# Altium schematic symbol library LCD.SchLib: 10 symbols
Pins are listed as number, name and electrical type; pins without a type are passive.

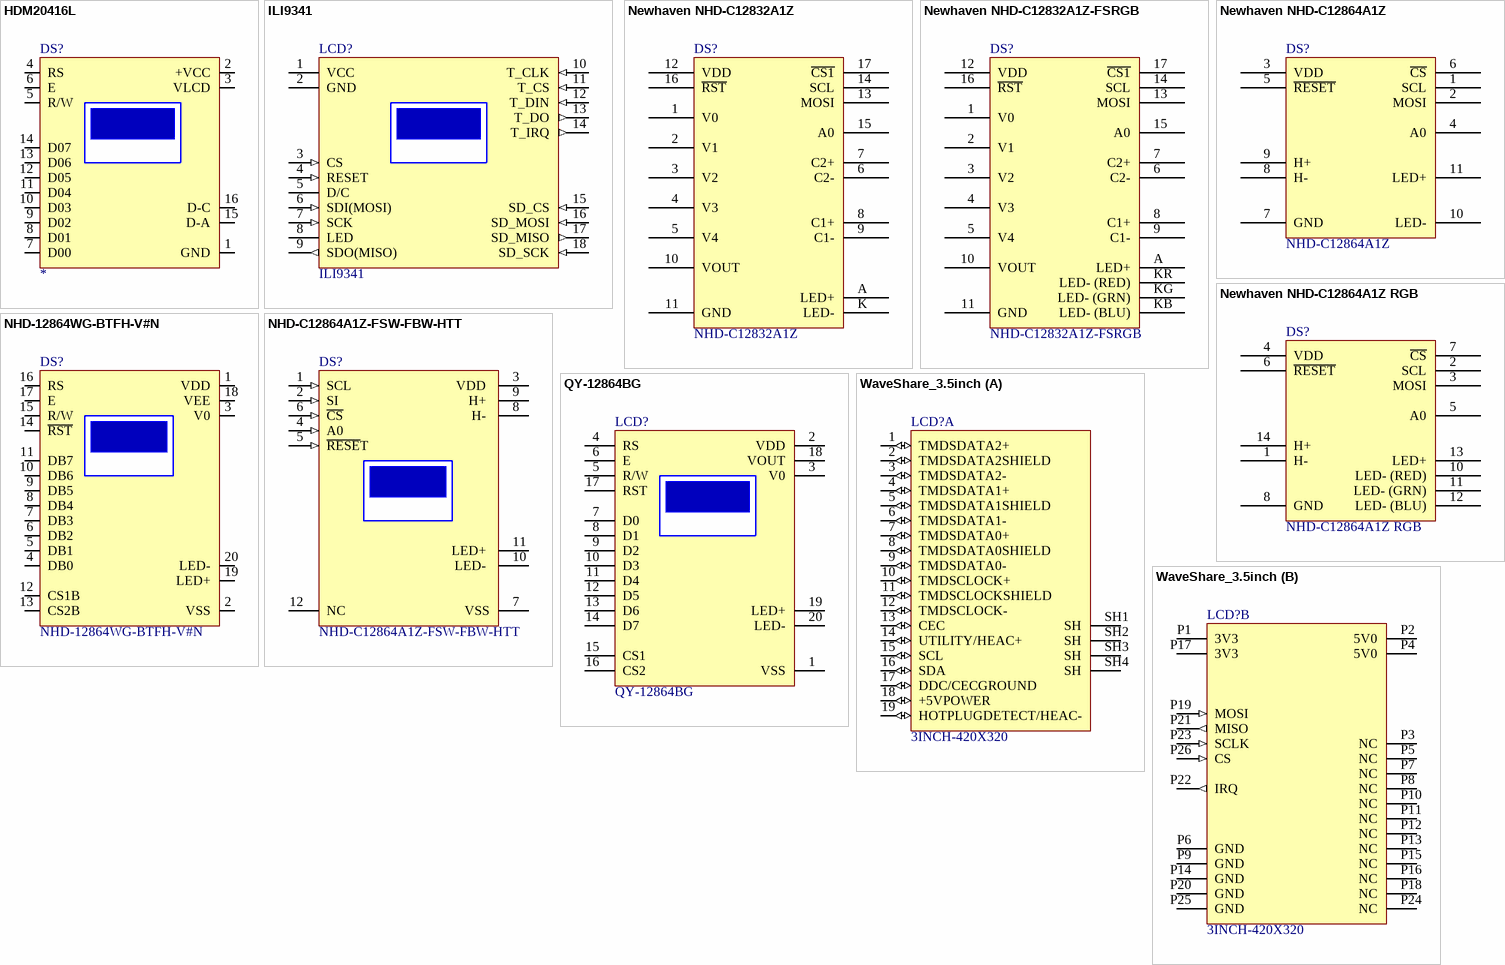
[diagram p0: symbols HDM20416L to WaveShare_3.5inch]

## HDM20416L
designator DS?
LCD 4X20 16 pins Dimensions 98 x 60 mm; Populated: Yes; Value: *; Manuf1: *; Manuf1Partnumber: *; ClassName: *; Code_JEDEC: *; HelpURL: *; ROHS: Yes; PackageReference: *; LifeCycle: Checked
footprint HDM20416L
footprint HDM20416L - MODE2 (LCD 4X20 16 pins Dimensions 98 x 60 mm)
pins: 1 GND, 2 +VCC, 3 VLCD, 4 RS, 5 R/W, 6 E, 7 D00, 8 D01, 9 D02, 10 D03, 11 D04, 12 D05, 13 D06, 14 D07, 15 D-A, 16 D-C

## ILI9341
designator LCD?
240x320 SPI TFT LCD Módule+ uSD; Value: ILI9341
footprint ILI9341 (ILI9341 Compatible LCD)
footprint ILI9341 - VAR1 (ILI9341 Compatible LCD)
footprint ILI9341 - VAR2 (ILI9341 Compatible LCD)
footprint ILI9341 - VAR3 (ILI9341 Compatible LCD)
pins: 1 VCC, 2 GND, 3 CS (in), 4 RESET (in), 5 D/C, 6 SDI(MOSI) (in), 7 SCK (in), 8 LED, 9 SDO(MISO) (out), 10 T_CLK (in), 11 T_CS (in), 12 T_DIN (in), 13 T_DO (out), 14 T_IRQ (out), 15 SD_CS (in), 16 SD_MOSI (in), 17 SD_MISO (out), 18 SD_SCK (in)

## Newhaven NHD-C12832A1Z
designator DS?, comment NHD-C12832A1Z
COG (Chip-On-Glass) Liquid Crystal Display Module; Populated: Yes; LifeCycle: Checked; ROHS: Yes; Value: NHD-C12832A1Z
footprint NHD-C12832A1Z BLUE
footprint NHD-C12832A1Z GREEN
footprint NHD-C12832A1Z RED
footprint NHD-C12832A1Z WHITE
pins: 1 V0, 2 V1, 3 V2, 4 V3, 5 V4, 6 C2-, 7 C2+, 8 C1+, 9 C1-, 10 VOUT, 11 GND, 12 VDD, 13 MOSI, 14 SCL, 15 A0, 16 ~{RST}, 17 ~{CS1}, A LED+, K LED-

## Newhaven NHD-C12832A1Z-FSRGB
designator DS?, comment NHD-C12832A1Z-FSRGB
COG (Chip-On-Glass) Liquid Crystal Display Module; Populated: Yes; LifeCycle: Checked; ROHS: Yes; Value: NHD-C12832A1Z-FSRGB
footprint NHD-C12832A1Z-FS(RGB)-FBW
pins: 1 V0, 2 V1, 3 V2, 4 V3, 5 V4, 6 C2-, 7 C2+, 8 C1+, 9 C1-, 10 VOUT, 11 GND, 12 VDD, 13 MOSI, 14 SCL, 15 A0, 16 ~{RST}, 17 ~{CS1}, A LED+, KB LED- (BLU), KG LED- (GRN), KR LED- (RED)

## Newhaven NHD-C12864A1Z
designator DS?, comment NHD-C12864A1Z
COG (Chip-On-Glass) Liquid Crystal Display Module; Populated: Yes; LifeCycle: Checked; ROHS: Yes; Value: NHD-C12864A1Z
footprint NHD-C12864A1Z BLUE
footprint NHD-C12864A1Z GREEN
footprint NHD-C12864A1Z RED
footprint NHD-C12864A1Z WHITE
pins: 1 SCL, 2 MOSI, 3 VDD, 4 A0, 5 ~{RESET}, 6 ~{CS}, 7 GND, 8 H-, 9 H+, 10 LED-, 11 LED+

## Newhaven NHD-C12864A1Z RGB
designator DS?, comment NHD-C12864A1Z RGB
COG (Chip-On-Glass) Liquid Crystal Display Module; Populated: Yes; LifeCycle: Checked; ROHS: Yes; Value: NHD-C12864A1Z RGB
footprint NHD-C12864A1Z RGB
pins: 1 H-, 2 SCL, 3 MOSI, 4 VDD, 5 A0, 6 ~{RESET}, 7 ~{CS}, 8 GND, 10 LED- (RED), 11 LED- (GRN), 12 LED- (BLU), 13 LED+, 14 H+

## NHD-12864WG-BTFH-V#N
designator DS?
LCD MOD GRAPH 128X64 WH TRANSFL; Manufacturer: Newhaven Display Intl; Display Type: FSTN - Film Super-Twisted Nematic; Display Mode: Transflective; Viewing Area: 60.00mm W x 31.26mm H; Backlight: LED - White; Interface: Parallel, 8-Bit; Dot Size: 0.39mm W x 0.39mm H; Dot Pitch: 0.43mm W x 0.43mm H; Populated: Yes; Supplier 1: Digi-Key; Supplier Part Number 1: NHD-12864WG-BTFH-V#N-ND; Manufacturer Part Number: NHD-12864WG-BTFH-V#N; RoHS: RoHS Compliant; Category: Optoelectronics; Stock 1: 507; Pricing 1: 1=24.5, 5=23.03, 10=21.56, 50=20.34, 100=19.36, 250=18.38, 500=17.64 (USD); Touchscreen: -; Diagonal Screen Size: -; Dot Pixels: 128 x 64; Graphics Color: -; Background Color: -; ComponentLink1URL: http://www.newhavendisplay.com/specs/NHD-12864WG-BTFH-VN.pdf; ComponentLink1Description: http://www.newhavendisplay.com/specs/NHD-12864WG-BTFH-VN.pdf; Value: NHD-12864WG-BTFH-V#N
footprint NHD-12864WG-BTFH-V#N
pins: 1 VDD (power), 2 VSS (power), 3 V0, 4 DB0, 5 DB1, 6 DB2, 7 DB3, 8 DB4, 9 DB5, 10 DB6, 11 DB7, 12 CS1B, 13 CS2B, 14 ~{RST}, 15 R/W, 16 RS, 17 E, 18 VEE, 19 LED+, 20 LED-

## NHD-C12864A1Z-FSW-FBW-HTT
designator DS?
LCD Graphic Display Modules & Accessories FSTN (+) Transfl 80.0 x 54.0 x 10.2; Manufacturer: Newhaven Display; Backlight Type: LED; Resolution (height): 64pixel; Resolution (width): 128pixel; Interface: SPI; Background Colour: Black; Supplier 1: Digi-Key; Manufacturer Part Number: NHD-C12864A1Z-FSW-FBW-HTT; Stock 1: 3716; Pricing 1: 1=21, 5=19.74, 10=18.6 (USD); Min Operating Temperature: -20°C; Max Operating Temperature: 70°C; Package Quantity: 1; Packaging: Bulk; ComponentLink1URL: https://datasheet.ciiva.com/6355/nhd-c12864a1z-fsw-fbw-htt-6355411.pdf; ComponentLink1Description: https://datasheet.ciiva.com/6355/nhd-c12864a1z-fsw-fbw-htt-6355411.pdf; ComponentLink2URL: https://datasheet.ciiva.com/5326/nhd-c12864a1z-fsw-fbw-htt-54080-5326694.pdf; ComponentLink2Description: https://datasheet.ciiva.com/5326/nhd-c12864a1z-fsw-fbw-htt-54080-5326694.pdf; Value: NHD-C12864A1Z-FSW-FBW-HTT; Supplier Part Number 1: NHD-C12864A1Z-FSW-FBW-HTT-ND
footprint NHD-C12864A1Z-FSW-FBW-HTT
pins: 1 SCL  (in), 2 SI  (in), 3 VDD , 4 A0  (in), 5 ~{RESE}T  (in), 6 ~{CS} (in), 7 VSS, 8 H- , 9 H+ , 10 LED- , 11 LED+ , 12 NC 

## QY-12864BG
designator LCD?
Graphic LCD 128x64 STN LED Backlight; Package: VISOR_HPP_01_LMG12864; Supplier 1: *; Supplier 1 Part Number: QY-12864BG; Value: QY-12864BG
footprint QY-12864BG
pins: 1 VSS, 2 VDD, 3 V0, 4 RS, 5 R/W, 6 E, 7 D0, 8 D1, 9 D2, 10 D3, 11 D4, 12 D5, 13 D6, 14 D7, 15 CS1, 16 CS2, 17 RST, 18 VOUT, 19 LED+, 20 LED-

## WaveShare_3.5inch
designator LCD?, comment 3INCH-420X320
Manufacturer: WaveShare; Manufacturer Part Number: 12824; Populated: Yes; Value: 3INCH-420X320; Supplier Part Number 1: https://www.waveshare.com/3.5inch-hdmi-lcd.htm; Supplier 1: waveshare.com; ROHS: Yes; HelpURL: https://www.waveshare.com/wiki/3.5inch_HDMI_LCD
footprint WAVESHARE_3.5INCH (3.5Inch HDMI LCD XPT2046)
part A pins: 1 TMDSDATA2+ (io), 2 TMDSDATA2SHIELD (io), 3 TMDSDATA2- (io), 4 TMDSDATA1+ (io), 5 TMDSDATA1SHIELD (io), 6 TMDSDATA1- (io), 7 TMDSDATA0+ (io), 8 TMDSDATA0SHIELD (io), 9 TMDSDATA0- (io), 10 TMDSCLOCK+ (io), 11 TMDSCLOCKSHIELD (io), 12 TMDSCLOCK- (io), 13 CEC (io), 14 UTILITY/HEAC+ (io), 15 SCL (io), 16 SDA (io), 17 DDC/CECGROUND (io), 18 +5VPOWER (io), 19 HOTPLUGDETECT/HEAC- (io), SH1 SH, SH2 SH, SH3 SH, SH4 SH
part B pins: P1 3V3, P2 5V0, P3 NC, P4 5V0, P5 NC, P6 GND, P7 NC, P8 NC, P9 GND, P10 NC, P11 NC, P12 NC, P13 NC, P14 GND, P15 NC, P16 NC, P17 3V3, P18 NC, P19 MOSI (in), P20 GND, P21 MISO (out), P22 IRQ (out), P23 SCLK (in), P24 NC, P25 GND, P26 CS (in)